# EAGLE library part MC14027BCPG (library ON_Semiconductor_By_element14_Batch_1)
Dual J-K Flip-Flop
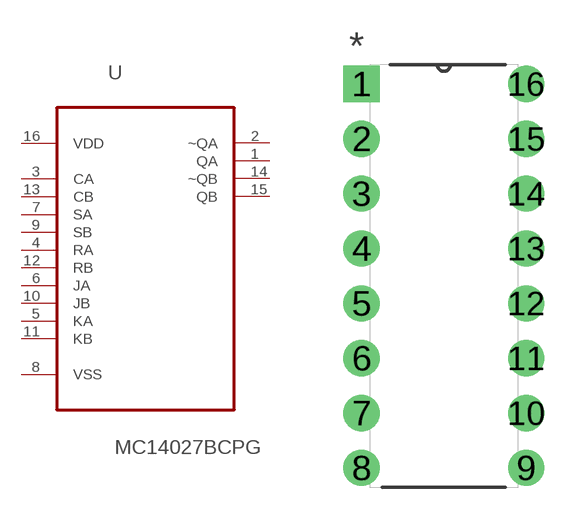
[diagram p219: symbol with the pads of DIP254P762X444-16; footprint DIP254P762X444-16]

Designator prefix U

## MC14027BCPG (MPN: MC14027BCPG; OC_FARNELL: 9665510; OC_NEWARK: 45J1039; PACKAGE: PDIP-16; SUPPLIER: On semiconductors)  [DIP254P762X444-16]
1  QA  out
2  ~QA  out
3  CA  in
4  RA  in
5  KA  in
6  JA  in
7  SA  in
8  VSS  pwr
9  SB  in
10  JB  in
11  KB  in
12  RB  in
13  CB  in
14  ~QB  out
15  QB  out
16  VDD  pwr

## Footprint DIP254P762X444-16 (pad centres in mm)
drill 1.118 square: 1 -7.62,17.78
drill 1.118: 2 -7.62,15.24; 3 -7.62,12.7; 4 -7.62,10.16; 5 -7.62,7.62; 6 -7.62,5.08; 7 -7.62,2.54; 8 -7.62,0; 9 0,0; 10 0,2.54; 11 0,5.08; 12 0,7.62; 13 0,10.16; 14 0,12.7; 15 0,15.24; 16 0,17.78